# EAGLE library part ARDUINO_NANO (library avr)
Arduino Nano ATMega168 Rapid Prototyping Board w/ USB on PDIP-32 Board. LBR originally from www.flatline.net/journal/2008/10/04/eagle-library-arduino-nano/, part redone: center packages/symbols, add description + labels, rename.
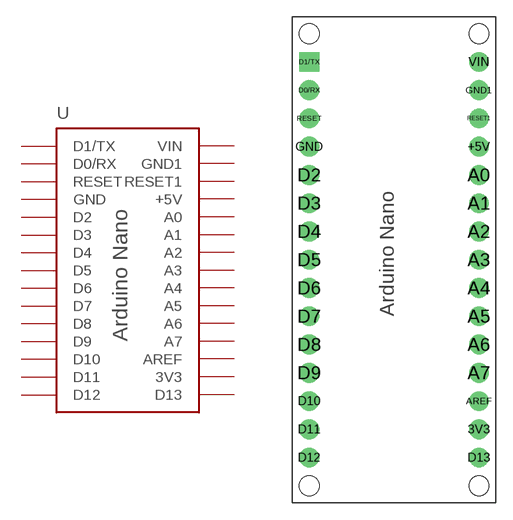
[diagram p83: symbol with the pads of ARDUINO-NANO-PDIP-32; footprint ARDUINO-NANO-PDIP-32]

Designator prefix -

## ARDUINO_NANO  [ARDUINO-NANO-PDIP-32]
3V3  3V3
+5V  +5V
A0  A0
A1  A1
A2  A2
A3  A3
A4  A4
A5  A5
A6  A6
A7  A7
AREF  AREF
D0/RX  D0/RX
D1/TX  D1/TX
D2  D2
D3  D3
D4  D4
D5  D5
D6  D6
D7  D7
D8  D8
D9  D9
D10  D10
D11  D11
D12  D12
D13  D13
GND  GND
GND1  GND1
RESET  RESET
RESET1  RESET1
VIN  VIN

## Footprint ARDUINO-NANO-PDIP-32 (pad centres in mm)
Arduino Nano ATMega168 Prototyping Board in PDIP-32 form.
drill 0.8 pad 1.778 round: 3V3 7.62,-15.24; +5V 7.62,10.16; A0 7.62,7.62; A1 7.62,5.08; A2 7.62,2.54; A3 7.62,0; A4 7.62,-2.54; A5 7.62,-5.08; A6 7.62,-7.62; A7 7.62,-10.16; AREF 7.62,-12.7; D0/RX -7.62,15.24; D2 -7.62,7.62; D3 -7.62,5.08; D4 -7.62,2.54; D5 -7.62,0; D6 -7.62,-2.54; D7 -7.62,-5.08; D8 -7.62,-7.62; D9 -7.62,-10.16; D10 -7.62,-12.7; D11 -7.62,-15.24; D12 -7.62,-17.78; D13 7.62,-17.78; GND -7.62,10.16; GND1 7.62,15.24; RESET -7.62,12.7; RESET1 7.62,12.7; VIN 7.62,17.78
drill 0.8 pad 1.778 square: D1/TX -7.62,17.78
hole 1.778 at -7.62,20.32
hole 1.778 at 7.62,20.32
hole 1.778 at -7.62,-20.32
hole 1.778 at 7.62,-20.32